# Altium schematic symbol library 292132-4.SchLib: 2 symbols
Pins are listed as number, name and electrical type; pins without a type are passive.

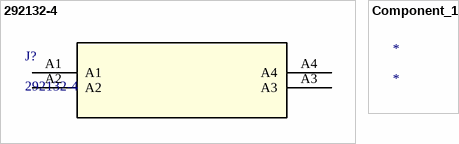
[diagram p0: symbols 292132-4 to Component_1]

## 292132-4
designator J?
No Description Available; Mfr_Name: TE Connectivity; Copyright: Copyright (C) 2022 Ultra Librarian. All rights reserved.; Manufacturer_Part_Number: 292132-4; Digi-Key_Part_Number_1: A98779-ND; RefDes: RefDes; Type: DEV
footprint 292132-4_TYC
pins: A1, A2, A3, A4

## Component_1
designator *